# Altium schematic symbol library Schlib.SchLib: 2 symbols
Pins are listed as number, name and electrical type; pins without a type are passive.

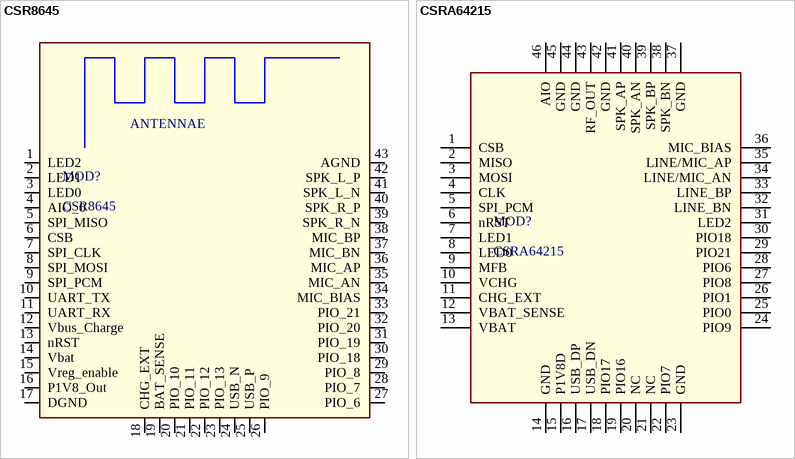
[diagram p0: symbols CSR8645 to CSRA64215]

## CSR8645
designator MOD?
CSR8645 breakout
footprint CSR8645 (CSR8645 breakout module from China)
pins: 1 LED2, 2 LED1, 3 LED0, 4 AIO_0, 5 SPI_MISO, 6 CSB, 7 SPI_CLK, 8 SPI_MOSI, 9 SPI_PCM, 10 UART_TX, 11 UART_RX, 12 Vbus_Charge, 13 nRST, 14 Vbat, 15 Vreg_enable, 16 P1V8_Out, 17 DGND, 18 CHG_EXT, 19 BAT_SENSE, 20 PIO_10, 21 PIO_11, 22 PIO_12, 23 PIO_13, 24 USB_N, 25 USB_P, 26 PIO_9, 27 PIO_6, 28 PIO_7, 29 PIO_8, 30 PIO_18, 31 PIO_19, 32 PIO_20, 33 PIO_21, 34 MIC_BIAS, 35 MIC_AN, 36 MIC_AP, 37 MIC_BN, 38 MIC_BP, 39 SPK_R_N, 40 SPK_R_P, 41 SPK_L_N, 42 SPK_L_P, 43 AGND
text: ANTENNAE

## CSRA64215
designator MOD?
CSRA64215 breakout module from China
footprint CSRA64215_board_cutout_mount (CSRA64215 breakout module from China, foorprint for mounting it inside a board cutout)
footprint CSRA64215_on_top_solder_mount (CSRA64215 breakout module from China, foorprint for mounting it on top/bottom of the PCB)
pins: 1 CSB, 2 MISO, 3 MOSI, 4 CLK, 5 SPI_PCM, 6 nRST, 7 LED1, 8 LED0, 9 MFB, 10 VCHG, 11 CHG_EXT, 12 VBAT_SENSE, 13 VBAT, 14 GND, 15 P1V8D, 16 USB_DP, 17 USB_DN, 18 PIO17, 19 PIO16, 20 NC, 21 NC, 22 PIO7, 23 GND, 24 PIO9, 25 PIO0, 26 PIO1, 27 PIO8, 28 PIO6, 29 PIO21, 30 PIO18, 31 LED2, 32 LINE_BN, 33 LINE_BP, 34 LINE/MIC_AN, 35 LINE/MIC_AP, 36 MIC_BIAS, 37 GND, 38 SPK_BN, 39 SPK_BP, 40 SPK_AN, 41 SPK_AP, 42 GND, 43 RF_OUT, 44 GND, 45 GND, 46 AIO